# EAGLE library part TPS54331* (library Volks73-TexasInstruments)
DC-DC Converter 3-A, 28-V, Step-Down DC-DC Converter with Eco-Mode™ Documentation Datasheet <http://www.ti.com/lit/ds/symlink/tps54331.pdf> Description The TPS54331 device is a 28-V, 3-A non-synchronous buck converter that integrates a low RDS(on) high-side MOSFET. To increase efficiency at light loads, a pulse skipping Eco-mode feature is automatically activated. Furthermore, the 1-uA shutdown supply current allows the device to be used in battery powered applications. Current mode control with internal slope compensation simplifies the external compensation calculations and reduces component count while allowing the use of ceramic output capacitors. A resistor divider programs the hysteresis of the input under-voltage lockout. An overvoltage transient protection circuit limits voltage overshoots during startup and transient conditions. A cycle-by-cycle current-limit scheme, frequency fold back, and thermal shutdown protect the device and the load in the event of an overload condition. The TPS54331 device is available in 8-pin SOIC package and 8-pin SO PowerPAD package that has been internally optimized to improve thermal performance. Features 3.5 to 28-V Input Voltage Range Adjustable Output Voltage Down to 0.8V Integrated 80-mΩ High-Side MOSFET Supports up to 3-A Continuous Output Current High Efficiency at Light Loads with a Pulse Skipping Eco-mode™ Fixed 1MHz Switching Frequency Typical 1uA Shutdown Quiescent Current Adjustable Slow Start Limits Inrush Currents Programmable UVLO Threshold Overvoltage Transient Protection Cycle-by-Cycle Current-Limit, Frequency Fold Back, and Thermal Shutdown Protection Available in Easy-to-Use SOIC8 Package or Thermally Enhanced 8-Pin SOIC PowerPAD™ Package Supported by WEBENCH <http://www.ti.com/lsds/ti/analog/webench/overview.page>™ Tool (http://www.ti.com/lsds/ti/analog/webench/overview.page) Applications Consumer Applications such as Set-Top Boxes, CPE Equipment, LCB Displays, Peripherals, and Battery Chargers Industrial and Car Audio Power Supplies 5-V, 12-V and 24-V Distributed Power Systems
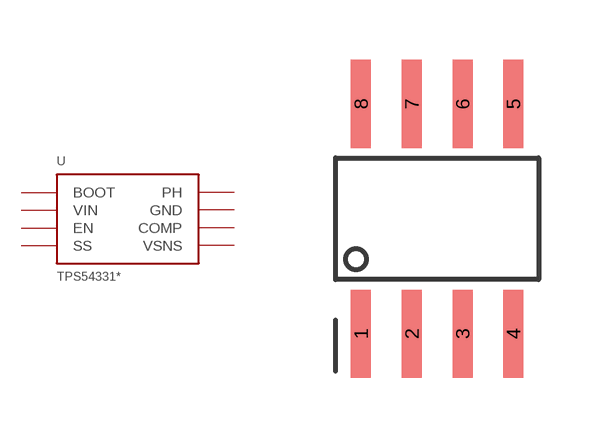
[diagram p2: symbol with the pads of SOIC-8; footprint SOIC-8]

Designator prefix U

## TPS54331DR (CATEGORY: Integrated Circuits (ICs); CURRENT-OUTPUT: 3A; DESCRIPTION: IC REG BUCK ADJ 3A 8SOIC; DOCUMENTATION_LINK: <a href="http://www.ti.com/lit/ds/symlink/tps54331.pdf">Datasheet</a>; DOCUMENTATION_URL: http://www.ti.com/lit/ds/symlink/tps54331.pdf; FAMILY: PMIC - Voltage Regulators - DC DC Switching Regulators; FREQUENCY-SWITCHING: 570kHz; MANUFACTURER: Texas Instruments; MOUNTING_TYPE: Surface Mount; NUMBER_OF_OUTPUTS: 1; OPERATING_TEMPERATURE: -40C ~ 150C; OUTPUT_TYPE: Adjustable; PACKAGE: 8-SOIC (0.154", 3.90mm Width); PART_NUMBER: TPS54331DR; SEIRES: Swift, Eco-Mode; SUPPLIER_DEVICE_PACKAGE: 8-SOIC; SUPPLIER_ITEM_LINK: <a href="http://www.digikey.com/product-detail/en/TPS54331DR/296-26991-1-ND/2255284">Details</a>; SUPPLIER_ITEM_NUMBER: 296-26991-1-ND; SUPPLIER_ITEM_URL: http://www.digikey.com/product-detail/en/TPS54331DR/296-26991-1-ND/2255284; SUPPLIER_LINK: <a href="http://www.digikey.com">Home Page</a>; SUPPLIER_NAME: Digi-Key; SUPPLIER_URL: http://www.digikey.com; SYNCHRONOUS_RECTIFIER: No; TYPE: Step-Down (Buck); VOLTAGE-INPUT: 3.5V ~ 28V; VOLTAGE-OUTPUT: 0.8V ~ 25V)  [SOIC-8]
1  BOOT
2  VIN  in
3  EN  in
4  SS
5  VSNS  in
6  COMP
7  GND  pwr
8  PH

## Footprint SOIC-8 (pad centres in mm)
8-Pin Small Outline Integrated Circuit (SOIC) Plastic Small Outline
smd 0.5 x 2.2: 1 -1.905,-2.875; 2 -0.635,-2.875; 3 0.635,-2.875; 4 1.905,-2.875; 5 1.905,2.875; 6 0.635,2.875; 7 -0.635,2.875; 8 -1.905,2.875